# EAGLE library part 8R-N (library vibhud)
DIL RESISTOR
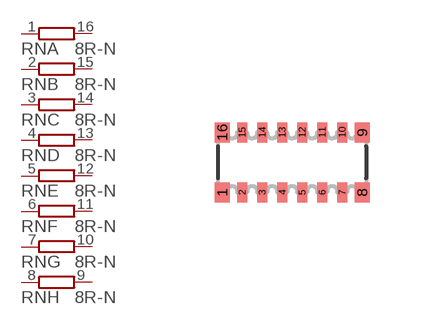
[diagram p6: symbol with the pads of EXB2HV; footprint EXB2HV]

Designator prefix RN; gates A=R1NV-1 B=R1NV-1 C=R1NV-1 D=R1NV-1 E=R1NV-1 F=R1NV-1 G=R1NV-1 H=R1NV-1

## 8R-NEXB2HV (OC_FARNELL: unknown; OC_NEWARK: unknown)  [EXB2HV]
1  A:1  pas
2  B:1  pas
3  C:1  pas
4  D:1  pas
5  E:1  pas
6  F:1  pas
7  G:1  pas
8  H:1  pas
9  H:2  pas
10  G:2  pas
11  F:2  pas
12  E:2  pas
13  D:2  pas
14  C:2  pas
15  B:2  pas
16  A:2  pas

## Footprint EXB2HV (pad centres in mm)
Chip Resistor Array 0402x8 8 resistors in 3.8 mm x 1.6 mm size (EXB2HV) Source: PANASONIC .. aoc0000ce1.pdf
smd 0.38 x 0.5: 1 -1.75,-0.75; 8 1.75,-0.75; 9 1.75,0.75; 16 -1.75,0.75
smd 0.25 x 0.5: 2 -1.25,-0.75; 3 -0.75,-0.75; 4 -0.25,-0.75; 5 0.25,-0.75; 6 0.75,-0.75; 7 1.25,-0.75; 10 1.25,0.75; 11 0.75,0.75; 12 0.25,0.75; 13 -0.25,0.75; 14 -0.75,0.75; 15 -1.25,0.75